# EAGLE library part L298 (library h-bridge)
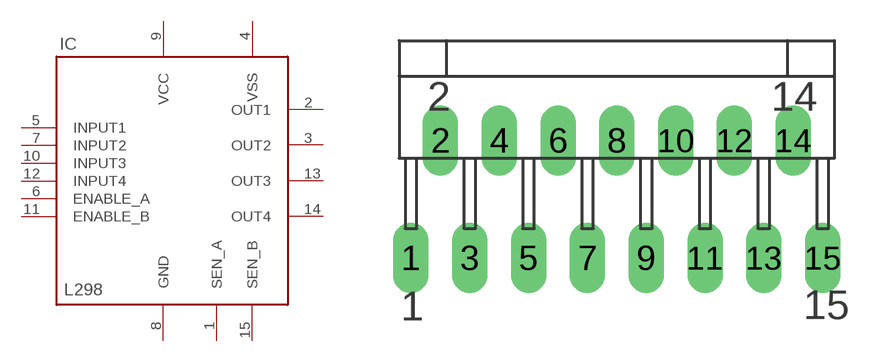
[diagram p1: symbol with the pads of MW-15; footprint MW-15]

Designator prefix IC

## L298  [MW-15]
1  SEN_A  in
2  OUT1  out
3  OUT2  out
4  VSS  pwr
5  INPUT1  in
6  ENABLE_A  in
7  INPUT2  in
8  GND  pwr
9  VCC  pwr
10  INPUT3  in
11  ENABLE_B  in
12  INPUT4  in
13  OUT3  out
14  OUT4  out
15  SEN_B  in

## Footprint MW-15 (pad centres in mm)
drill 1.016 pad 1.27 long: 1 -8.89,-5.08; 2 -7.62,0; 3 -6.35,-5.08; 4 -5.08,0; 5 -3.81,-5.08; 6 -2.54,0; 7 -1.27,-5.08; 8 0,0; 9 1.27,-5.08; 10 2.54,0; 11 3.81,-5.08; 12 5.08,0; 13 6.35,-5.08; 14 7.62,0; 15 8.89,-5.08